# Altium schematic symbol library HW.SchLib: 328 symbols (part 10 of 10)
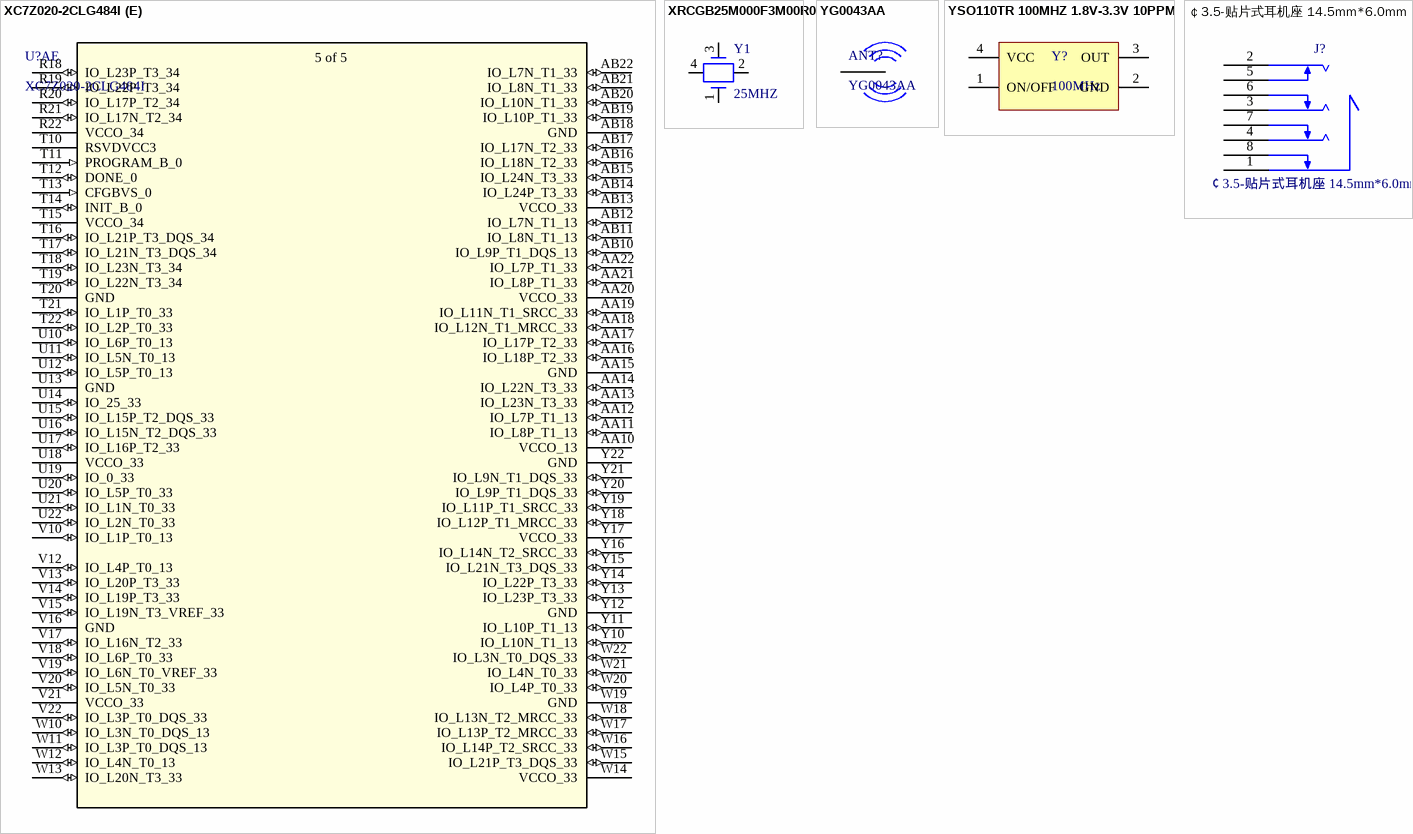
[diagram p32: symbols XC7Z020-2CLG484I to ￠3.5-贴片式耳机座 14.5mm*6.0mm]

## XC7Z020-2CLG484I
designator U?A
IC, FPGA, All Programmable SoC, ZYNQ-7000, 484 BGA; Mfr_Name: Xilinx Inc; Manufacturer: Xilinx; Speed Grade: -2; Interface: I2C,SPI,USB,Ethernet,MMC,SDIO,SD,UART,USART,EBI/EMI; Number of I/Os: 130; Data Bus Width: 32b; Max Frequency: 733MHz; Peripherals: DMA; Core Architecture: ARM; RAM Size: 256KB; RefDes: RefDes; Type: Type; Supplier 1: Digikey; Manufacturer Part Number: XC7Z020-2CLG484I; RoHS: Yes; Category: FPGAs - Field Programmable Gate Arrays; Stock 1: 250; Pricing 1: 1=198.9 (USD); Case/Package: BGA; Number of Pins: 484; Min Operating Temperature: -40°C; Max Operating Temperature: 100°C; Packaging: Tray; Series: Zynq®-7000; Radiation Hardening: No; RoHS Compliant: Yes; ComponentLink1URL: https://datasheet.ciiva.com/48507/ds190-zynq-7000-overview-48507467.pdf?src-supplier=Avnet; ComponentLink1Description: https://datasheet.ciiva.com/48507/ds190-zynq-7000-overview-48507467.pdf?src-supplier=Avnet; ComponentLink2URL: https://datasheet.ciiva.com/14849/ds187-xc7z010-xc7z020-data-sheet-14849886.pdf?src-supplier=Digikey; ComponentLink2Description: https://datasheet.ciiva.com/14849/ds187-xc7z010-xc7z020-data-sheet-14849886.pdf?src-supplier=Digikey; Supplier Part Number 1: 122-1896-ND
footprint CLG484_XIL
part A pins: AA4 IO_L18N_T2_13 (io), AA6 IO_L14N_T2_SRCC_13 (io), AA7 IO_L14P_T2_SRCC_13 (io), AA8 IO_L11N_T1_SRCC_13 (io), AA9 IO_L11P_T1_SRCC_13 (io), AA10 VCCO_13 (power), AA11 IO_L8P_T1_13 (io), AA12 IO_L7P_T1_13 (io), AB1 IO_L15N_T2_DQS_13 (io), AB2 IO_L15P_T2_DQS_13 (io), AB3 VCCO_13 (power), AB4 IO_L16N_T2_13 (io), AB5 IO_L16P_T2_13 (io), AB6 IO_L17N_T2_13 (io), AB7 IO_L17P_T2_13 (io), AB9 IO_L9N_T1_DQS_13 (io), AB10 IO_L9P_T1_DQS_13 (io), AB11 IO_L8N_T1_13 (io), AB12 IO_L7N_T1_13 (io), R6 IO_L19P_T3_13 (io), R7 IO_0_13 (io), T4 IO_L20P_T3_13 (io), T5 VCCO_13 (power), T6 IO_L19N_T3_VREF_13 (io), U4 IO_L20N_T3_13 (io), U5 IO_L22N_T3_13 (io), U6 IO_L22P_T3_13 (io), U7 IO_25_13 (io), U8 VCCO_13 (power), U9 IO_L6N_T0_VREF_13 (io), U10 IO_L6P_T0_13 (io), U11 IO_L5N_T0_13 (io), U12 IO_L5P_T0_13 (io), V4 IO_L21N_T3_DQS_13 (io), V5 IO_L21P_T3_DQS_13 (io), V7 IO_L23P_T3_13 (io), V8 IO_L2P_T0_13 (io), V9 IO_L1N_T0_13 (io), V10 IO_L1P_T0_13 (io), V11 VCCO_13 (power), V12 IO_L4P_T0_13 (io), W4 VCCO_13 (power), W5 IO_L24N_T3_13 (io), W6 IO_L24P_T3_13 (io), W7 IO_L23N_T3_13 (io), W8 IO_L2N_T0_13 (io), W10 IO_L3N_T0_DQS_13 (io), W11 IO_L3P_T0_DQS_13 (io), W12 IO_L4N_T0_13 (io), Y4 IO_L18P_T2_13 (io), Y5 IO_L13N_T2_MRCC_13 (io), Y6 IO_L13P_T2_MRCC_13 (io), Y7 VCCO_13 (power), Y8 IO_L12N_T1_MRCC_13 (io), Y9 IO_L12P_T1_MRCC_13 (io), Y10 IO_L10N_T1_13 (io), Y11 IO_L10P_T1_13 (io)
part B pins: A1 PS_MIO1_500, A2 PS_MIO2_500, A3 PS_MIO5_500, A4 PS_MIO6_500, A5 GND, A6 PS_MIO13_500, A7 PS_MIO18_501, A8 PS_MIO20_501, A9 PS_MIO36_501, A10 VCCO_MIO1_501 (power), A11 PS_MIO30_501 (io), A12 PS_MIO28_501 (io), A13 PS_MIO26_501 (io), A14 PS_MIO22_501 (io), A15 GND (power), A16 IO_L9P_T1_DQS_AD3P_35 (io), A17 IO_L9N_T1_DQS_AD3N_35 (io), A18 IO_L10P_T1_AD11P_35 (io), A19 IO_L10N_T1_AD11N_35 (io), A20 VCCO_35 (power), A21 IO_L15P_T2_DQS_AD12P_35 (io), A22 IO_L15N_T2_DQS_AD12N_35 (io), AA1 PS_DDR_DQ26_502 (io), AA2 PS_DDR_DM3_502 (out), AA3 PS_DDR_DQ24_502 (io), AA5 GND (power), AA13 IO_L23N_T3_33 (io), AA14 IO_L22N_T3_33 (io), AA15 GND (power), AA16 IO_L18P_T2_33 (io), AA17 IO_L17P_T2_33 (io), AA18 IO_L12N_T1_MRCC_33 (io), AA19 IO_L11N_T1_SRCC_33 (io), AA20 VCCO_33 (power), AA21 IO_L8P_T1_33 (io), AA22 IO_L7P_T1_33 (io), AB8 GND (power), AB13 VCCO_33 (power), AB14 IO_L24P_T3_33 (io), AB15 IO_L24N_T3_33 (io), AB16 IO_L18N_T2_33 (io), AB17 IO_L17N_T2_33 (io), AB18 GND (power), AB19 IO_L10P_T1_33 (io), AB20 IO_L10N_T1_33 (io), AB21 IO_L8N_T1_33 (io), AB22 IO_L7N_T1_33 (io), B1 PS_DDR_DM0_502, B2 PS_DDR_DQ2_502, B3 VCCO_MIO0_500, B4 PS_MIO11_500, B5 PS_POR_B_500, B6 PS_MIO14_500, B7 PS_MIO24_501, B8 GND, B9 PS_MIO45_501, B10 PS_MIO47_501 (io), B11 PS_MIO43_501 (io), B12 PS_MIO34_501 (io), B13 VCCO_MIO1_501 (power), B14 PS_MIO37_501 (io), B15 IO_L7N_T1_AD2N_35 (io), B16 IO_L8P_T1_AD10P_35 (io), B17 IO_L8N_T1_AD10N_35 (io), B18 GND (power), B19 IO_L13P_T2_MRCC_35 (io), B20 IO_L13N_T2_MRCC_35 (io), B21 IO_L18P_T2_AD13P_35 (io), B22 IO_L18N_T2_AD13N_35 (io), C1 GND, C2 PS_DDR_DQS_P0_502, C3 PS_DDR_DQ1_502, C4 PS_MIO9_500, C5 PS_MIO12_500, C6 VCCO_MIO0_500, C7 PS_MIO32_501, C8 PS_MIO41_501, C9 PS_SRST_B_501, C10 PS_MIO51_501 (io), C11 GND (power), C12 PS_MIO53_501 (io), C13 PS_MIO39_501 (io), C14 PS_MIO49_501 (io), C15 IO_L7P_T1_AD2P_35 (io), C16 VCCO_35 (power), C17 IO_L11P_T1_SRCC_35 (io), C18 IO_L11N_T1_SRCC_35 (io), C19 IO_L12N_T1_MRCC_35 (io), C20 IO_L14N_T2_AD4N_SRCC_35 (io), C21 GND (power), C22 IO_L16N_T2_35 (io), D1 PS_DDR_DQ0_502, D2 PS_DDR_DQS_N0_502, D3 PS_DDR_DQ3_502, D4 GND, D5 PS_MIO7_500, D6 PS_MIO16_501, D7 PS_MIO27_501, D8 PS_MIO42_501, D9 VCCO_MIO1_501, D10 PS_MIO52_501 (io), D11 PS_MIO48_501 (io), D12 PS_MIO46_501 (io), D13 PS_MIO50_501 (io), D14 GND (power), D15 IO_L3N_T0_DQS_AD1N_35 (io), D16 IO_L2P_T0_AD8P_35 (io), D17 IO_L2N_T0_AD8N_35 (io), D18 IO_L12P_T1_MRCC_35 (io), D19 VCCO_35 (power), D20 IO_L14P_T2_AD4P_SRCC_35 (io), D21 IO_L17N_T2_AD5N_35 (io), D22 IO_L16P_T2_35 (io), E1 PS_DDR_DQ5_502, E2 VCCO_DDR_502, E3 PS_DDR_DQ4_502, E4 PS_MIO4_500, E5 PS_MIO8_500, E6 PS_MIO15_500, E7 GND, E8 PS_MIO29_501, E9 PS_MIO17_501, E10 PS_MIO19_501 (io), E11 PS_MIO23_501 (io), E12 VCCO_MIO1_501 (power), E13 PS_MIO44_501 (io), E14 PS_MIO40_501 (io), E15 IO_L3P_T0_DQS_AD1P_35 (io), E16 IO_L1N_T0_AD0N_35 (io), E17 GND (power), E18 IO_L5N_T0_AD9N_35 (io), E19 IO_L21P_T3_DQS_AD14P_35 (io), E20 IO_L21N_T3_DQS_AD14N_35 (io), E21 IO_L17P_T2_AD5P_35 (io), E22 VCCO_35 (power), F1 PS_DDR_DQ7_502, F2 PS_DDR_DQ6_502, F3 PS_DDR_DRST_B_502, F4 PS_DDR_A13_502, F5 VCCO_DDR_502, F6 PS_MIO3_500, F7 PS_CLK_500, F8 PS_MIO_VREF_501, F9 PS_MIO31_501, F10 GND (power), F11 PS_MIO21_501 (io), F12 PS_MIO25_501 (io), F13 PS_MIO38_501 (io), F14 PS_MIO35_501 (io), F15 VCCO_35 (power), F16 IO_L1P_T0_AD0P_35 (io), F17 IO_L6N_T0_VREF_35 (io), F18 IO_L5P_T0_AD9P_35 (io), F19 IO_L20N_T3_AD6N_35 (io), F20 GND (power), F21 IO_L23P_T3_35 (io), F22 IO_L23N_T3_35 (io), G1 PS_DDR_DQ9_502, G2 PS_DDR_DQ8_502, G3 GND, G4 PS_DDR_A14_502, G5 PS_DDR_A11_502, G6 PS_MIO0_500, G7 PS_MIO10_500, G8 VCCPINT, G9 VCCBATT_0, G10 RSVDGND, G11 TCK_0 (in), G12 TMS_0 (in), G13 PS_MIO33_501 (io), G14 TDO_0 (out), G15 IO_L4P_T0_35 (io), G16 IO_L4N_T0_35 (io), G17 IO_L6P_T0_35 (io), G18 VCCO_35 (power), G19 IO_L20P_T3_AD6P_35 (io), G20 IO_L22P_T3_AD7P_35 (io), G21 IO_L22N_T3_AD7N_35 (io), G22 IO_L24N_T3_AD15N_35 (io), H1 VCCO_DDR_502, H2 PS_DDR_DQS_P1_502, H3 PS_DDR_DM1_502, H4 PS_DDR_A12_502, H5 PS_DDR_A9_502, H6 GND, H7 PS_DDR_VREF0_502, H8 GND, H9 VCCPINT, H10 VCCPLL (power), H11 VCCBRAM (power), H12 GND (power), H13 TDI_0 (in), H14 GND (power), H15 IO_0_34 (io), H16 GND (power), H17 IO_0_35 (io), H18 IO_25_35 (io), H19 IO_L19P_T3_35 (io), H20 IO_L19N_T3_VREF_35 (io), H21 VCCO_35 (power), H22 IO_L24P_T3_AD15P_35 (io), J1 PS_DDR_DQ14_502, J2 PS_DDR_DQS_N1_502, J3 PS_DDR_A10_502, J4 VCCO_DDR_502, J5 PS_DDR_A8_502, J6 PS_DDR_A7_502, J7 PS_DDR_A6_502, J8 VCCPINT, J9 GND, J10 VCCBRAM (power), J11 GND (power), J12 VCCINT (power), J13 GND (power), J14 VCCINT (power), J15 IO_L1P_T0_34 (io), J16 IO_L2P_T0_34 (io), J17 IO_L2N_T0_34 (io), J18 IO_L7P_T1_34 (io), J19 GND (power), J20 IO_L9P_T1_DQS_34 (io), J21 IO_L8P_T1_34 (io), J22 IO_L8N_T1_34 (io), K1 PS_DDR_DQ13_502, K2 GND, K3 PS_DDR_DQ15_502, K4 PS_DDR_A2_502, K5 PS_DDR_A5_502, K6 PS_DDR_A4_502, K7 VCCO_DDR_502, K8 GND, K9 VCCPAUX, K10 GND (power), K11 VCCADC_0 (power), K12 GNDADC_0 (power), K13 VCCINT (power), K14 GND (power), K15 IO_L1N_T0_34 (io), K16 IO_L3P_T0_DQS_PUDC_B_34 (io), K17 VCCO_34 (power), K18 IO_L7N_T1_34 (io), K19 IO_L11P_T1_SRCC_34 (io), K20 IO_L11N_T1_SRCC_34 (io), K21 IO_L9N_T1_DQS_34 (io), K22 GND (power), L1 PS_DDR_DQ10_502, L2 PS_DDR_DQ11_502, L3 PS_DDR_DQ12_502, L4 PS_DDR_A3_502, L5 GND, L6 PS_DDR_BA1_502, L7 PS_DDR_BA0_502, L8 VCCPINT (power), L9 GND (power), L10 VCCAUX (power), L11 VP_0 (in), L12 VREFN_0 (power), L13 GND (power), L14 VCCINT (power), L15 GND (power), L16 IO_L3N_T0_DQS_34 (io), L17 IO_L4P_T0_34 (io), L18 IO_L12P_T1_MRCC_34 (io), L19 IO_L12N_T1_MRCC_34 (io), L20 VCCO_34 (power), L21 IO_L10P_T1_34 (io), L22 IO_L10N_T1_34 (io), M1 PS_DDR_DQ16_502 (io), M2 PS_DDR_DQ22_502 (io), M3 VCCO_DDR_502 (power), M4 PS_DDR_A0_502 (out), M5 PS_DDR_A1_502 (out), M6 PS_DDR_BA2_502 (out), M7 PS_DDR_VRN_502 (out), M8 GND (power), M9 VCCPAUX (power), M10 GND (power), M11 VREFP_0 (power), M12 VN_0 (in), M13 VCCINT (power), M14 GND (power), M15 IO_L6P_T0_34 (io), M16 IO_L6N_T0_VREF_34 (io), M17 IO_L4N_T0_34 (io), M18 GND (power), M19 IO_L13P_T2_MRCC_34 (io), M20 IO_L13N_T2_MRCC_34 (io), M21 IO_L15P_T2_DQS_34 (io), M22 IO_L15N_T2_DQS_34 (io), N1 GND (power), N2 PS_DDR_DQS_P2_502 (io), N3 PS_DDR_DQ18_502 (io), N4 PS_DDR_CKP_502 (out), N5 PS_DDR_CKN_502 (out), N6 VCCO_DDR_502 (power), N7 PS_DDR_VRP_502 (out), N8 VCCPINT (power), N9 GND (power), N10 VCCAUX (power), N11 DXP_0, N12 DXN_0, N13 GND (power), N14 VCCINT (power), N15 IO_L19P_T3_34 (io), N16 VCCO_34 (power), N17 IO_L5P_T0_34 (io), N18 IO_L5N_T0_34 (io), N19 IO_L14P_T2_SRCC_34 (io), N20 IO_L14N_T2_SRCC_34 (io), N21 GND (power), N22 IO_L16P_T2_34 (io), P1 PS_DDR_DM2_502 (out), P2 PS_DDR_DQS_N2_502 (io), P3 PS_DDR_CAS_B_502 (out), P4 GND (power), P5 PS_DDR_ODT_502 (out), P6 PS_DDR_CS_B_502 (out), P7 PS_DDR_VREF1_502 (power), P8 GND (power), P9 VCCPAUX (power), P10 GND (power), P11 VCCAUX (power), P12 GND (power), P13 VCCINT (power), P14 GND (power), P15 IO_L19N_T3_VREF_34 (io), P16 IO_L24P_T3_34 (io), P17 IO_L20P_T3_34 (io), P18 IO_L20N_T3_34 (io), P19 VCCO_34 (power), P20 IO_L18P_T2_34 (io), P21 IO_L18N_T2_34 (io), P22 IO_L16N_T2_34 (io), R1 PS_DDR_DQ23_502 (io), R2 VCCO_DDR_502 (power), R3 PS_DDR_DQ20_502 (io), R4 PS_DDR_WE_B_502 (out), R5 PS_DDR_RAS_B_502 (out), R8 VCCPINT (power), R9 GND (power), R10 VCCAUX (power), R11 GND (power), R12 VCCO_0 (power), R13 GND (power), R14 VCCINT (power), R15 IO_25_34 (io), R16 IO_L24N_T3_34 (io), R17 GND (power), R18 IO_L23P_T3_34 (io), R19 IO_L22P_T3_34 (io), R20 IO_L17P_T2_34 (io), R21 IO_L17N_T2_34 (io), R22 VCCO_34 (power), T1 PS_DDR_DQ19_502 (io), T2 PS_DDR_DQ21_502 (io), T3 PS_DDR_DQ17_502 (io), T7 RSVDVCC1 (power), T8 RSVDVCC2 (power), T9 VCCPAUX (power), T10 RSVDVCC3 (power), T11 PROGRAM_B_0 (in), T12 DONE_0 (io), T13 CFGBVS_0 (in), T14 INIT_B_0 (io), T15 VCCO_34 (power), T16 IO_L21P_T3_DQS_34 (io), T17 IO_L21N_T3_DQS_34 (io), T18 IO_L23N_T3_34 (io), T19 IO_L22N_T3_34 (io), T20 GND (power), T21 IO_L1P_T0_33 (io), T22 IO_L2P_T0_33 (io), U1 PS_DDR_DQ25_502 (io), U2 PS_DDR_DQ27_502 (io), U3 GND (power), U13 GND (power), U14 IO_25_33 (io), U15 IO_L15P_T2_DQS_33 (io), U16 IO_L15N_T2_DQS_33 (io), U17 IO_L16P_T2_33 (io), U18 VCCO_33 (power), U19 IO_0_33 (io), U20 IO_L5P_T0_33 (io), U21 IO_L1N_T0_33 (io), U22 IO_L2N_T0_33 (io), V2 PS_DDR_DQS_P3_502 (io), V3 PS_DDR_CKE_502 (out), V6 GND (power), V13 IO_L20P_T3_33 (io), V14 IO_L19P_T3_33 (io), V15 IO_L19N_T3_VREF_33 (io), V16 GND (power), V17 IO_L16N_T2_33 (io), V18 IO_L6P_T0_33 (io), V19 IO_L6N_T0_VREF_33 (io), V20 IO_L5N_T0_33 (io), V21 VCCO_33 (power), V22 IO_L3P_T0_DQS_33 (io), W1 PS_DDR_DQ28_502 (io), W2 PS_DDR_DQS_N3_502 (io), W3 PS_DDR_DQ30_502 (io), W9 GND (power), W13 IO_L20N_T3_33 (io), W14 VCCO_33 (power), W15 IO_L21P_T3_DQS_33 (io), W16 IO_L14P_T2_SRCC_33 (io), W17 IO_L13P_T2_MRCC_33 (io), W18 IO_L13N_T2_MRCC_33 (io), W19 GND (power), W20 IO_L4P_T0_33 (io), W21 IO_L4N_T0_33 (io), W22 IO_L3N_T0_DQS_33 (io), Y1 PS_DDR_DQ31_502 (io), Y2 GND (power), Y3 PS_DDR_DQ29_502 (io), Y12 GND (power), Y13 IO_L23P_T3_33 (io), Y14 IO_L22P_T3_33 (io), Y15 IO_L21N_T3_DQS_33 (io), Y16 IO_L14N_T2_SRCC_33 (io), Y17 VCCO_33 (power), Y18 IO_L12P_T1_MRCC_33 (io), Y19 IO_L11P_T1_SRCC_33 (io), Y20 IO_L9P_T1_DQS_33 (io), Y21 IO_L9N_T1_DQS_33 (io), Y22 GND (power)
part C pins: AA2 PS_DDR_DM3_502 (out), AA3 PS_DDR_DQ24_502 (io), AA4 IO_L18N_T2_13 (io), AA5 GND (power), AA6 IO_L14N_T2_SRCC_13 (io), AA7 IO_L14P_T2_SRCC_13 (io), AA8 IO_L11N_T1_SRCC_13 (io), AA9 IO_L11P_T1_SRCC_13 (io), AB1 IO_L15N_T2_DQS_13 (io), AB2 IO_L15P_T2_DQS_13 (io), AB3 VCCO_13 (power), AB4 IO_L16N_T2_13 (io), AB5 IO_L16P_T2_13 (io), AB6 IO_L17N_T2_13 (io), AB7 IO_L17P_T2_13 (io), AB8 GND (power), AB9 IO_L9N_T1_DQS_13 (io), B10 PS_MIO47_501 (io), B11 PS_MIO43_501 (io), B12 PS_MIO34_501 (io), B13 VCCO_MIO1_501 (power), B14 PS_MIO37_501 (io), B15 IO_L7N_T1_AD2N_35 (io), B16 IO_L8P_T1_AD10P_35 (io), B17 IO_L8N_T1_AD10N_35 (io), B18 GND (power), B19 IO_L13P_T2_MRCC_35 (io), B20 IO_L13N_T2_MRCC_35 (io), B21 IO_L18P_T2_AD13P_35 (io), B22 IO_L18N_T2_AD13N_35 (io), C10 PS_MIO51_501 (io), C11 GND (power), C12 PS_MIO53_501 (io), C13 PS_MIO39_501 (io), C14 PS_MIO49_501 (io), C15 IO_L7P_T1_AD2P_35 (io), C16 VCCO_35 (power), C17 IO_L11P_T1_SRCC_35 (io), C18 IO_L11N_T1_SRCC_35 (io), C19 IO_L12N_T1_MRCC_35 (io), C20 IO_L14N_T2_AD4N_SRCC_35 (io), C21 GND (power), C22 IO_L16N_T2_35 (io), D10 PS_MIO52_501 (io), D11 PS_MIO48_501 (io), D12 PS_MIO46_501 (io), D13 PS_MIO50_501 (io), D14 GND (power), D15 IO_L3N_T0_DQS_AD1N_35 (io), D16 IO_L2P_T0_AD8P_35 (io), D17 IO_L2N_T0_AD8N_35 (io), D18 IO_L12P_T1_MRCC_35 (io), D19 VCCO_35 (power), D20 IO_L14P_T2_AD4P_SRCC_35 (io), D21 IO_L17N_T2_AD5N_35 (io), D22 IO_L16P_T2_35 (io), E10 PS_MIO19_501 (io), E11 PS_MIO23_501 (io), E12 VCCO_MIO1_501 (power), E13 PS_MIO44_501 (io), E14 PS_MIO40_501 (io), E15 IO_L3P_T0_DQS_AD1P_35 (io), E16 IO_L1N_T0_AD0N_35 (io), E17 GND (power), E18 IO_L5N_T0_AD9N_35 (io), E19 IO_L21P_T3_DQS_AD14P_35 (io), E20 IO_L21N_T3_DQS_AD14N_35 (io), E21 IO_L17P_T2_AD5P_35 (io), E22 VCCO_35 (power), F10 GND (power), F11 PS_MIO21_501 (io), F12 PS_MIO25_501 (io), F13 PS_MIO38_501 (io), F14 PS_MIO35_501 (io), F15 VCCO_35 (power), F16 IO_L1P_T0_AD0P_35 (io), F17 IO_L6N_T0_VREF_35 (io), F18 IO_L5P_T0_AD9P_35 (io), F19 IO_L20N_T3_AD6N_35 (io), F20 GND (power), F21 IO_L23P_T3_35 (io), F22 IO_L23N_T3_35 (io), G10 RSVDGND, G11 TCK_0 (in), G12 TMS_0 (in), G13 PS_MIO33_501 (io), G14 TDO_0 (out), G15 IO_L4P_T0_35 (io), G16 IO_L4N_T0_35 (io), G17 IO_L6P_T0_35 (io), G18 VCCO_35 (power), G19 IO_L20P_T3_AD6P_35 (io), G20 IO_L22P_T3_AD7P_35 (io), G21 IO_L22N_T3_AD7N_35 (io), G22 IO_L24N_T3_AD15N_35 (io), H10 VCCPLL (power), H11 VCCBRAM (power)
part D pins: H12 GND (power), H13 TDI_0 (in), H14 GND (power), H15 IO_0_34 (io), H16 GND (power), H17 IO_0_35 (io), H18 IO_25_35 (io), H19 IO_L19P_T3_35 (io), H20 IO_L19N_T3_VREF_35 (io), H21 VCCO_35 (power), H22 IO_L24P_T3_AD15P_35 (io), J10 VCCBRAM (power), J11 GND (power), J12 VCCINT (power), J13 GND (power), J14 VCCINT (power), J15 IO_L1P_T0_34 (io), J16 IO_L2P_T0_34 (io), J17 IO_L2N_T0_34 (io), J18 IO_L7P_T1_34 (io), J19 GND (power), J20 IO_L9P_T1_DQS_34 (io), J21 IO_L8P_T1_34 (io), J22 IO_L8N_T1_34 (io), K10 GND (power), K11 VCCADC_0 (power), K12 GNDADC_0 (power), K13 VCCINT (power), K14 GND (power), K15 IO_L1N_T0_34 (io), K16 IO_L3P_T0_DQS_PUDC_B_34 (io), K17 VCCO_34 (power), K18 IO_L7N_T1_34 (io), K19 IO_L11P_T1_SRCC_34 (io), K20 IO_L11N_T1_SRCC_34 (io), K21 IO_L9N_T1_DQS_34 (io), K22 GND (power), L10 VCCAUX (power), L11 VP_0 (in), L12 VREFN_0 (power), L13 GND (power), L14 VCCINT (power), L15 GND (power), L16 IO_L3N_T0_DQS_34 (io), L17 IO_L4P_T0_34 (io), L18 IO_L12P_T1_MRCC_34 (io), L19 IO_L12N_T1_MRCC_34 (io), L20 VCCO_34 (power), L21 IO_L10P_T1_34 (io), L22 IO_L10N_T1_34 (io), M10 GND (power), M11 VREFP_0 (power), M12 VN_0 (in), M13 VCCINT (power), M14 GND (power), M15 IO_L6P_T0_34 (io), M16 IO_L6N_T0_VREF_34 (io), M17 IO_L4N_T0_34 (io), M18 GND (power), M19 IO_L13P_T2_MRCC_34 (io), M20 IO_L13N_T2_MRCC_34 (io), M21 IO_L15P_T2_DQS_34 (io), M22 IO_L15N_T2_DQS_34 (io), N10 VCCAUX (power), N11 DXP_0, N12 DXN_0, N13 GND (power), N14 VCCINT (power), N15 IO_L19P_T3_34 (io), N16 VCCO_34 (power), N17 IO_L5P_T0_34 (io), N18 IO_L5N_T0_34 (io), N19 IO_L14P_T2_SRCC_34 (io), N20 IO_L14N_T2_SRCC_34 (io), N21 GND (power), N22 IO_L16P_T2_34 (io), P10 GND (power), P11 VCCAUX (power), P12 GND (power), P13 VCCINT (power), P14 GND (power), P15 IO_L19N_T3_VREF_34 (io), P16 IO_L24P_T3_34 (io), P17 IO_L20P_T3_34 (io), P18 IO_L20N_T3_34 (io), P19 VCCO_34 (power), P20 IO_L18P_T2_34 (io), P21 IO_L18N_T2_34 (io), P22 IO_L16N_T2_34 (io), R10 VCCAUX (power), R11 GND (power), R12 VCCO_0 (power), R13 GND (power), R14 VCCINT (power), R15 IO_25_34 (io), R16 IO_L24N_T3_34 (io), R17 GND (power)
part E pins: AA10 VCCO_13 (power), AA11 IO_L8P_T1_13 (io), AA12 IO_L7P_T1_13 (io), AA13 IO_L23N_T3_33 (io), AA14 IO_L22N_T3_33 (io), AA15 GND (power), AA16 IO_L18P_T2_33 (io), AA17 IO_L17P_T2_33 (io), AA18 IO_L12N_T1_MRCC_33 (io), AA19 IO_L11N_T1_SRCC_33 (io), AA20 VCCO_33 (power), AA21 IO_L8P_T1_33 (io), AA22 IO_L7P_T1_33 (io), AB10 IO_L9P_T1_DQS_13 (io), AB11 IO_L8N_T1_13 (io), AB12 IO_L7N_T1_13 (io), AB13 VCCO_33 (power), AB14 IO_L24P_T3_33 (io), AB15 IO_L24N_T3_33 (io), AB16 IO_L18N_T2_33 (io), AB17 IO_L17N_T2_33 (io), AB18 GND (power), AB19 IO_L10P_T1_33 (io), AB20 IO_L10N_T1_33 (io), AB21 IO_L8N_T1_33 (io), AB22 IO_L7N_T1_33 (io), R18 IO_L23P_T3_34 (io), R19 IO_L22P_T3_34 (io), R20 IO_L17P_T2_34 (io), R21 IO_L17N_T2_34 (io), R22 VCCO_34 (power), T10 RSVDVCC3 (power), T11 PROGRAM_B_0 (in), T12 DONE_0 (io), T13 CFGBVS_0 (in), T14 INIT_B_0 (io), T15 VCCO_34 (power), T16 IO_L21P_T3_DQS_34 (io), T17 IO_L21N_T3_DQS_34 (io), T18 IO_L23N_T3_34 (io), T19 IO_L22N_T3_34 (io), T20 GND (power), T21 IO_L1P_T0_33 (io), T22 IO_L2P_T0_33 (io), U10 IO_L6P_T0_13 (io), U11 IO_L5N_T0_13 (io), U12 IO_L5P_T0_13 (io), U13 GND (power), U14 IO_25_33 (io), U15 IO_L15P_T2_DQS_33 (io), U16 IO_L15N_T2_DQS_33 (io), U17 IO_L16P_T2_33 (io), U18 VCCO_33 (power), U19 IO_0_33 (io), U20 IO_L5P_T0_33 (io), U21 IO_L1N_T0_33 (io), U22 IO_L2N_T0_33 (io), V10 IO_L1P_T0_13 (io), V12 IO_L4P_T0_13 (io), V13 IO_L20P_T3_33 (io), V14 IO_L19P_T3_33 (io), V15 IO_L19N_T3_VREF_33 (io), V16 GND (power), V17 IO_L16N_T2_33 (io), V18 IO_L6P_T0_33 (io), V19 IO_L6N_T0_VREF_33 (io), V20 IO_L5N_T0_33 (io), V21 VCCO_33 (power), V22 IO_L3P_T0_DQS_33 (io), W10 IO_L3N_T0_DQS_13 (io), W11 IO_L3P_T0_DQS_13 (io), W12 IO_L4N_T0_13 (io), W13 IO_L20N_T3_33 (io), W14 VCCO_33 (power), W15 IO_L21P_T3_DQS_33 (io), W16 IO_L14P_T2_SRCC_33 (io), W17 IO_L13P_T2_MRCC_33 (io), W18 IO_L13N_T2_MRCC_33 (io), W19 GND (power), W20 IO_L4P_T0_33 (io), W21 IO_L4N_T0_33 (io), W22 IO_L3N_T0_DQS_33 (io), Y10 IO_L10N_T1_13 (io), Y11 IO_L10P_T1_13 (io), Y12 GND (power), Y13 IO_L23P_T3_33 (io), Y14 IO_L22P_T3_33 (io), Y15 IO_L21N_T3_DQS_33 (io), Y16 IO_L14N_T2_SRCC_33 (io), Y17 VCCO_33 (power), Y18 IO_L12P_T1_MRCC_33 (io), Y19 IO_L11P_T1_SRCC_33 (io), Y20 IO_L9P_T1_DQS_33 (io), Y21 IO_L9N_T1_DQS_33 (io), Y22 GND (power)
part B text: 2 of 5; 1 of 5; 3 of 5; 4 of 5; 5 of 5
part C text: 3 of 5
part D text: 4 of 5
part E text: 5 of 5

## XRCGB25M000F3M00R0
designator Y1, comment 25MHZ
CRYSTAL 25.0000MHZ 6PF SMD; Manufacturer: Murata; Manufacturer Part Number: XRCGB25M000F3M00R0; ESR (Equivalent Series Resistance): 150R; Frequency Tolerance: 30ppm; Frequency Stability: 40ppm; Supplier 1: Digi-Key; Stock 1: 131079; Pricing 1: 1=0.31, 10=0.256, 50=0.2306, 100=0.205, 500=0.1948, 1000=0.164 (USD); Mount: Surface Mount; Case/Package: SMD/SMT; Number of Pins: 4; Min Operating Temperature: -30°C; Max Operating Temperature: 85°C; Frequency: 25MHz; Load Capacitance: 6pF; Packaging: Tape and Reel; Tolerance: 30ppm; Package Quantity: 1; Termination: SMD/SMT; Series Resistance: 150R; Series: XRCGB; Length: 2mm; Width: 1.6mm; Height: 0.028inch; Depth: 1.6mm; Reach SVHC Compliant: Yes; Lead Free: Lead Free; RoHS Compliant: Yes; ComponentLink1URL: https://datasheet.ciiva.com/18026/getdatasheetpartid-711202-18026505.pdf?src-supplier=Verical; ComponentLink1Description: https://datasheet.ciiva.com/18026/getdatasheetpartid-711202-18026505.pdf?src-supplier=Verical; ComponentLink2URL: https://datasheet.ciiva.com/1361/p79e-1361519.pdf?src-supplier=Element14; ComponentLink2Description: https://datasheet.ciiva.com/1361/p79e-1361519.pdf?src-supplier=Element14; ComponentLink3URL: https://datasheet.ciiva.com/22695/p79e-22695438.pdf?src-supplier=Element14; ComponentLink3Description: https://datasheet.ciiva.com/22695/p79e-22695438.pdf?src-supplier=Element14; ComponentLink4URL: https://datasheet.ciiva.com/852/p79e-852299.pdf?src-supplier=Digi-Key; ComponentLink4Description: https://datasheet.ciiva.com/852/p79e-852299.pdf?src-supplier=Digi-Key; ComponentLink5URL: https://datasheet.ciiva.com/852/p79e-852298.pdf?src-supplier=Digi-Key; ComponentLink5Description: https://datasheet.ciiva.com/852/p79e-852298.pdf?src-supplier=Digi-Key; ComponentLink6URL: https://datasheet.ciiva.com/852/p79e-852300.pdf?src-supplier=Digi-Key; ComponentLink6Description: https://datasheet.ciiva.com/852/p79e-852300.pdf?src-supplier=Digi-Key; Supplier Part Number 1: 490-5578-6-ND
footprint XRCGB25M000F3M00R0
pins: 1, 2, 3, 4

## YG0043AA
designator ANT?
Chip Antenna RHCP 6 Band 50Ohm 1606MHz 3dBi Surface Mount; Manufacturer: Quectel Wireless Solutions; Supplier 1: Digikey; Manufacturer Part Number: YG0043AA; RoHS: No; Category: RF Antennas; Stock 1: 974; Pricing 1: 1=2.34, 10=1.502, 25=1.2824, 80=1.06888, 230=0.92391, 576=0.82689, 1152=0.76784, 2880=0.7048, 5184=0.67179 (USD); Supplier Part Number 1: 2958-YG0043AA-ND
footprint XDCR_YG0043AA
pins: 1 AT

## YSO110TR 100MHZ 1.8V-3.3V 10PPM
designator Y?, comment 100MHz
YSO110TR 100MHZ 1.8V-3.3V 10PPM; Manufacturer: Shenzhen Yang Xing Technology; Manufacturer Part Number: OT2ED8K5JI-111YXC-100M; Supplier 1: Digikey; RoHS: No; Stock 1: 400; Pricing 1: 1=1.7, 10=1.629, 50=1.5908, 100=1.3635, 500=1.32562, 1000=1.11731 (USD); Supplier Part Number 1: 4029-OT2ED8K5JI-111YXC-100MCT-ND
footprint XC2016
pins: 1 ON/OFF, 2 GND, 3 OUT, 4 VCC

## ￠3.5-贴片式耳机座 14.5mm*6.0mm
designator J?, comment 描述: ￠3.5-贴片式耳机座 14.5mm*6.0mm  (hidden comment: PJ-393-7A)
SPZL000145; 封装: SMD; 厂商: 韩国韩荣; 名称: 耳机座子; 工作温度: -20~70℃; 贴片和直插: SMD; SuppliersPartNumber: C128990; 型号: PJ-393-7A; 商品编号: SPZL000145
footprint earphone-14.5mm*6.0mm
pins: 1, 2, 3, 4, 5, 6, 7, 8